# EAGLE library part IS62WV25616DBLL-45TLI (library ISSI_By_element14_Batch_1)
STATIC SRAM
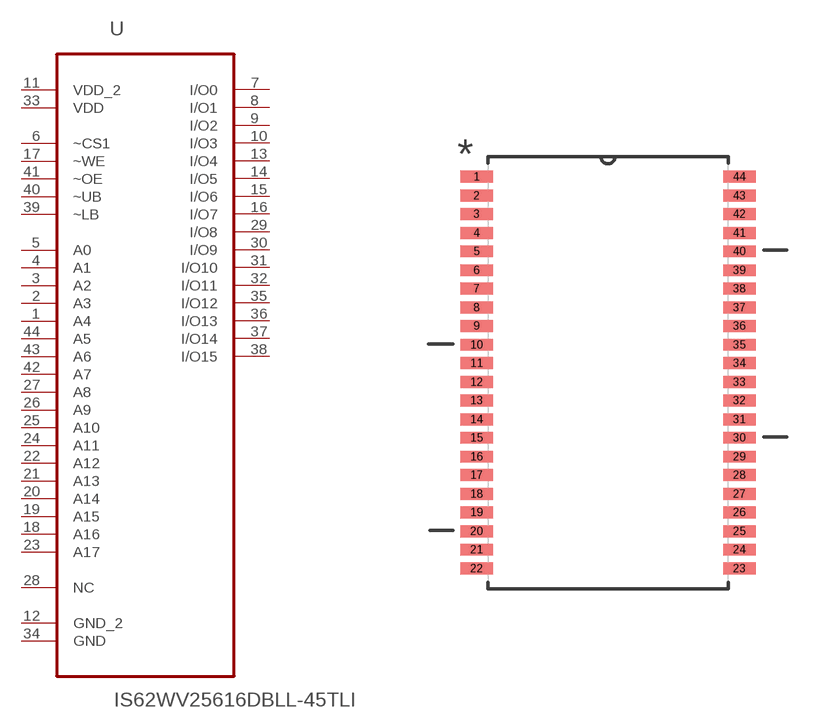
[diagram p3: symbol with the pads of SOP80P1176X120-44N; footprint SOP80P1176X120-44N]

Designator prefix U

## IS62WV25616DBLL-45TLI (MPN: IS62WV25616DBLL-45TLI; OC_FARNELL: 1869970; OC_NEWARK: 32T7410; PACKAGE: TSSOP-44; SUPPLIER: INTEGRATED SILICON SOLUTION (ISSI))  [SOP80P1176X120-44N]
1  A4  in
2  A3  in
3  A2  in
4  A1  in
5  A0  in
6  ~CS1  in
7  I/O0
8  I/O1
9  I/O2
10  I/O3
11  VDD_2  pwr
12  GND_2  pas
13  I/O4
14  I/O5
15  I/O6
16  I/O7
17  ~WE  in
18  A16  in
19  A15  in
20  A14  in
21  A13  in
22  A12  in
23  A17  in
24  A11  in
25  A10  in
26  A9  in
27  A8  in
28  NC  nc
29  I/O8
30  I/O9
31  I/O10
32  I/O11
33  VDD  pwr
34  GND  pas
35  I/O12
36  I/O13
37  I/O14
38  I/O15
39  ~LB  pas
40  ~UB  pas
41  ~OE  in
42  A7  in
43  A6  in
44  A5  in

## Footprint SOP80P1176X120-44N (pad centres in mm)
smd 1.397 x 0.508: 1 -5.639,8.407; 2 -5.639,7.595; 3 -5.639,6.807; 4 -5.639,5.994; 5 -5.639,5.207; 6 -5.639,4.394; 7 -5.639,3.607; 8 -5.639,2.794; 9 -5.639,2.007; 10 -5.639,1.194; 11 -5.639,0.406; 12 -5.639,-0.406; 13 -5.639,-1.194; 14 -5.639,-2.007; 15 -5.639,-2.794; 16 -5.639,-3.607; 17 -5.639,-4.394; 18 -5.639,-5.207; 19 -5.639,-5.994; 20 -5.639,-6.807; 21 -5.639,-7.595; 22 -5.639,-8.407; 23 5.639,-8.407; 24 5.639,-7.595; 25 5.639,-6.807; 26 5.639,-5.994; 27 5.639,-5.207; 28 5.639,-4.394; 29 5.639,-3.607; 30 5.639,-2.794; 31 5.639,-2.007; 32 5.639,-1.194; 33 5.639,-0.406; 34 5.639,0.406; 35 5.639,1.194; 36 5.639,2.007; 37 5.639,2.794; 38 5.639,3.607; 39 5.639,4.394; 40 5.639,5.207; 41 5.639,5.994; 42 5.639,6.807; 43 5.639,7.595; 44 5.639,8.407